# Altium footprint library E73-2G4M04S1D.PcbLib: 1 footprints
Each footprint in its own frame and in the unit in brackets; x right, y up, seen from the top. Pads: shape width x height; smd on the part's side, far side on the other; paste and mask are expansions set on the pad; w line width, h text height; cw(c..) or ccw(c..) is an arc to the next point about the centre after c.
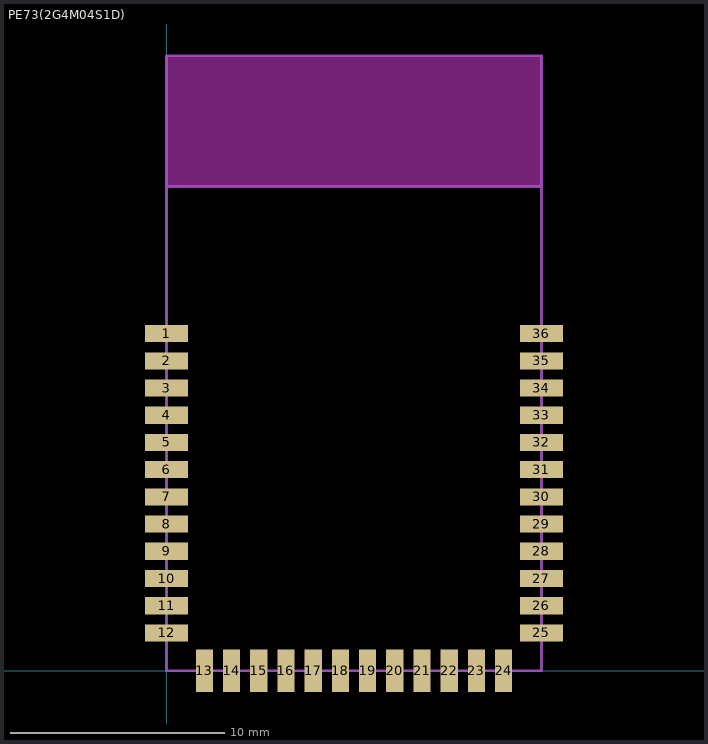
[diagram p0: the footprint, top view; thin cyan lines are the x and y axes]

## PE73(2G4M04S1D) [mm]
pads (36):
  rect 2x0.8 smd: 1(0,15.735) 2(0,14.465) 3(0,13.195) 4(0,11.925) 5(0,10.655) 6(0,9.385) 7(0,8.115) 8(0,6.845) 9(0,5.575) 10(0,4.305) 11(0,3.035) 12(0,1.765) 25(17.5,1.765) 26(17.5,3.035) 27(17.5,4.305) 28(17.5,5.575) 29(17.5,6.845) 30(17.5,8.115) 31(17.5,9.385) 32(17.5,10.655) 33(17.5,11.925) 34(17.5,13.195) 35(17.5,14.465) 36(17.5,15.735)
  rect 0.8x2 smd: 13(1.765,0) 14(3.035,0) 15(4.305,0) 16(5.575,0) 17(6.845,0) 18(8.115,0) 19(9.385,0) 20(10.655,0) 21(11.925,0) 22(13.195,0) 23(14.465,0) 24(15.735,0)
Top Layer keep-out:
  rectangle: 0,22.606 17.5,28.7
Mechanical 1:
  lines w0.127: 0,22.606 17.5,22.606 ; 0,0 17.5,0 17.5,28.7 0,28.7 0,0
3D body "E73-2G4M04S1D.step": height 2.41, standoff 0, extent 0,0 17.5,28.7